# Altium footprint library connector.PcbLib: 180 footprints (part 11 of 12)
Each footprint in its own frame and in the unit in brackets; x right, y up, seen from the top. Pads: shape width x height; smd on the part's side, far side on the other; paste and mask are expansions set on the pad; w line width, h text height; cw(c..) or ccw(c..) is an arc to the next point about the centre after c.
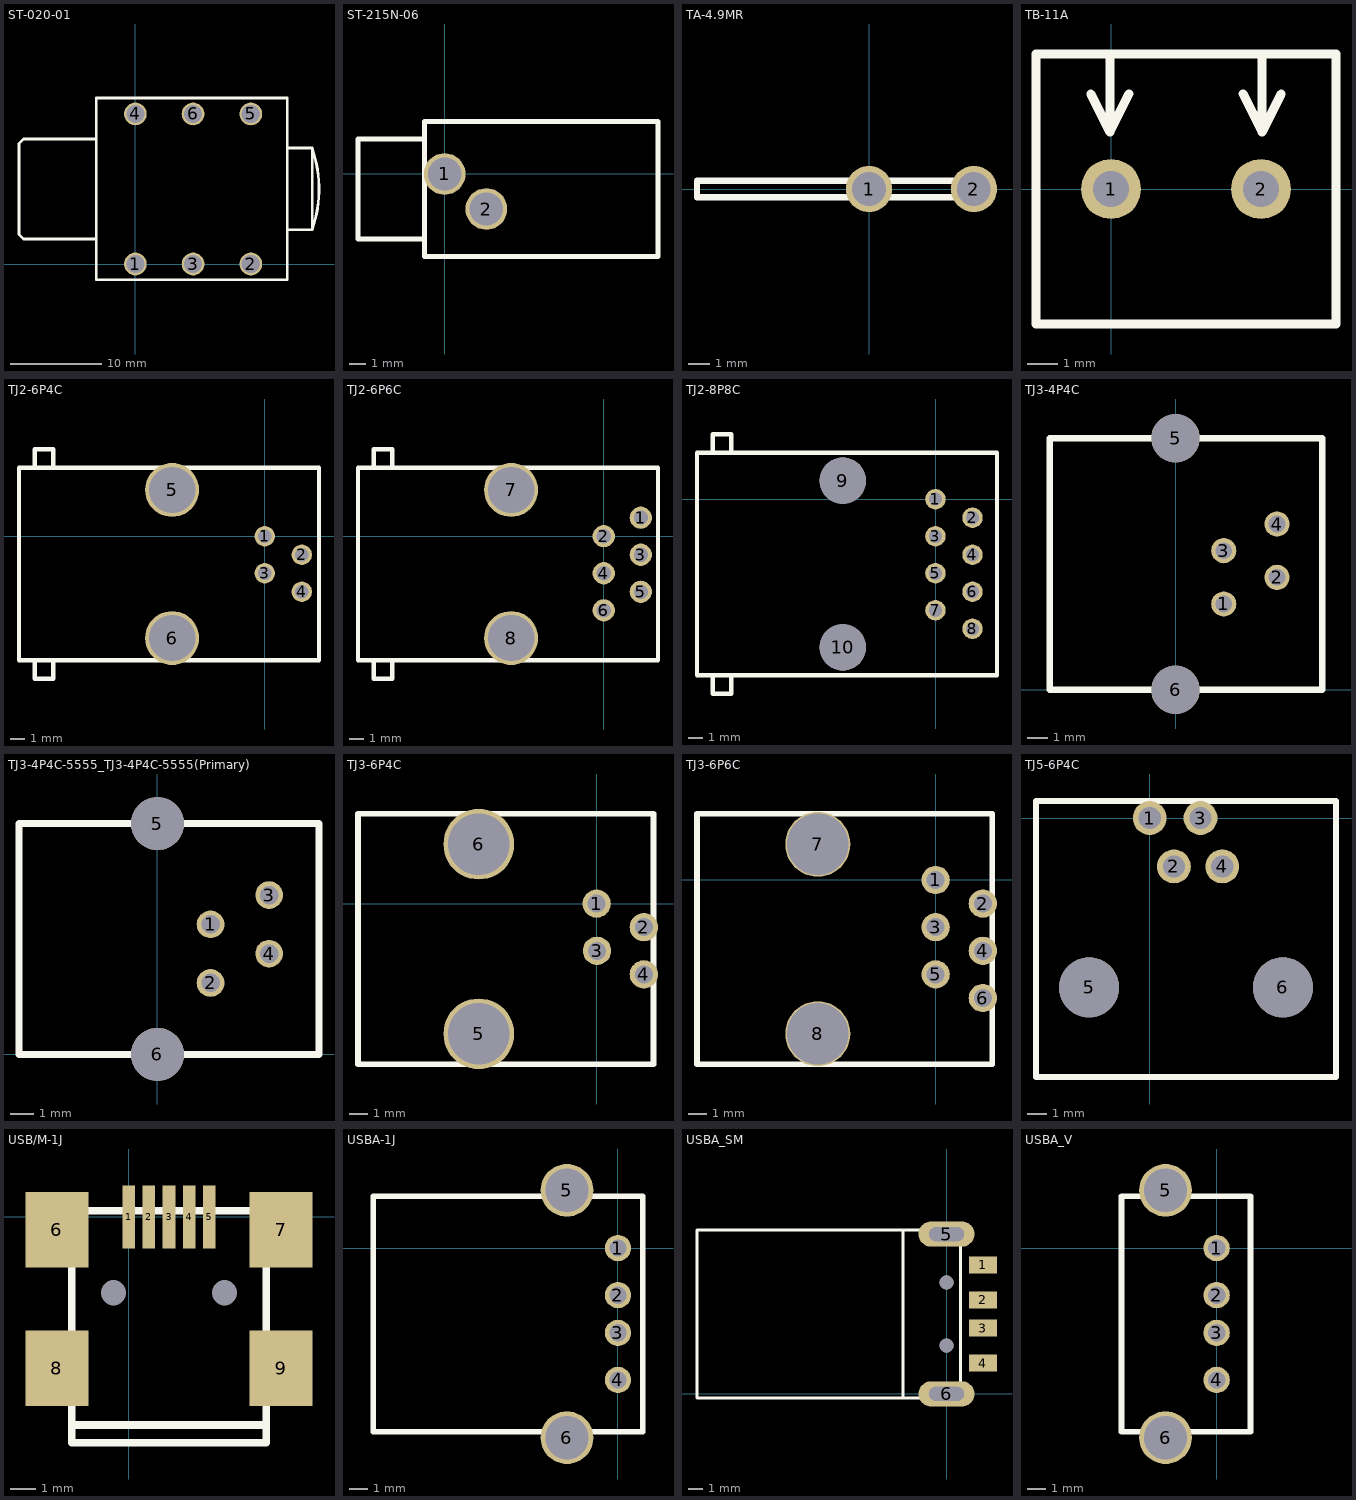
[diagram p10: the footprints below, top view; thin cyan lines are the x and y axes]

## ST-020-01 [mm]
pads (6):
  round 2.5 hole 2: 1(0,0) 2(12.7,0) 3(6.35,0) 4(0,16.51) 5(12.7,16.51) 6(6.35,16.51)
Top Overlay:
  lines w0.3: -4.3,2.755 -12.3,2.755 -12.8,3.255 -12.8,13.255 -12.3,13.755 -4.3,13.755 ; 16.7,3.755 19.45,3.755 19.45,12.755 16.7,12.755 ; 19.452,3.757 ccw(c6.33,8.25) 19.452,12.743 ; -4.3,-1.745 16.7,-1.745 16.7,18.255 -4.3,18.255 -4.3,-1.745

## ST-215N-06 [mm]
pads (2):
  round 2.5 hole 2: 1(0,0) 2(2.5,-2.1)
Top Overlay:
  lines w0.3: -1.2,-3.9 -2.8,-3.9 -5.2,-3.9 -5.2,-0.9 -5.2,0.15 -5.2,2.1 -1.2,2.1 ; -1.2,-4.95 12.8,-4.95 12.8,3.15 -1.2,3.15 -1.2,-4.95

## TA-4.9MR [mm]
pads (2):
  round 2.2 hole 1.6: 1(0,0) 2(5,0)
Top Overlay:
  lines w0.3: -8.2,-0.4 5.4,-0.4 5.4,0.4 -8.2,0.4 -8.2,-0.4

## TB-11A [mm]
pads (2):
  round 2 hole 1.2: 1(0,0) 2(5,0)
Top Overlay:
  lines w0.3: -0.675,3.175 -0.04,1.905 ; -0.04,4.445 -0.04,1.905 ; 0.595,3.175 -0.04,1.905 ; 4.405,3.175 5.04,1.905 ; 5.04,4.445 5.04,1.905 ; 5.675,3.175 5.04,1.905 ; -2.5,-4.5 -2.5,4.5 7.5,4.5 7.5,-4.5 -2.5,-4.5

## TJ2-6P4C [mm]
pads (6):
  round 1.4 hole 0.9: 1(0,-0.001) 2(2.541,-1.271) 3(0,-2.541) 4(2.541,-3.811)
  round 3.7 hole 3.17: 5(-6.35,3.174) 6(-6.35,-6.986)
Top Overlay:
  lines w0.3: -15.76,-8.511 -15.76,-9.781 ; -15.759,4.699 -15.759,5.97 -15.758,5.97 -14.49,5.97 -14.49,4.699 ; -14.49,-8.511 -14.49,-9.781 -15.759,-9.781 ; -15.76,-9.781 -15.759,-9.781 ; -16.85,-8.511 -16.85,4.699 3.72,4.699 3.72,-8.511 -16.85,-8.511
Mechanical 1:
  lines w0.3: -6.411,3.174 -6.31,3.174 ; -6.405,-6.986 -6.321,-6.986

## TJ2-6P6C [mil]
pads (8):
  round 60 hole 38: 1(100.04,49.96) 2(0,-0.04) 3(100.04,-50.04) 4(0,-100.04) 5(100.04,-150.04) 6(0,-200.04)
  round 145.67 hole 124.8: 7(-250,124.96) 8(-250,-275.04)
Top Overlay:
  lines w11.81: -620.47,-335.08 -620.47,-385.08 ; -620.43,185 -620.43,235.04 -620.39,235.04 -570.47,235.04 -570.47,185 ; -570.47,-335.08 -570.47,-385.08 -620.43,-385.08 ; -620.47,-385.08 -620.43,-385.08 ; -663.39,-335.08 146.46,-335.08 146.46,185 -663.39,185 -663.39,-335.08
Mechanical 1:
  lines w11.81: -252.4,124.96 -248.43,124.96 ; -252.17,-275.04 -248.86,-275.04

## TJ2-8P8C [mm]
pads (10):
  round 1.4 hole 0.9: 1(-0.005,-0.005) 2(2.535,-1.275) 3(-0.005,-2.545) 4(2.535,-3.815) 5(-0.005,-5.085) 6(2.535,-6.355) 7(-0.005,-7.625) 8(2.535,-8.895)
  round 3.17 hole 3.17: 9(-6.355,1.265) 10(-6.355,-10.165)
Top Overlay:
  lines w0.3: -15.265,-12.07 -15.265,-13.34 -13.995,-13.34 -13.995,-12.07 ; -15.265,3.17 -15.265,4.44 -13.995,4.44 -13.995,3.17 ; -16.355,-12.07 4.215,-12.07 4.215,3.17 -16.355,3.17 -16.355,-12.07

## TJ3-4P4C [mm]
pads (6):
  round 1.2 hole 0.8: 1(2.3,4.095) 2(4.84,5.365) 3(2.3,6.635) 4(4.84,7.905)
  round 2.3 hole 2.3: 5(0,12) 6(0,0)
Top Overlay:
  lines w0.3: -6,0 -6,12 7,12 7,0 -6,0

## TJ3-4P4C-5555_TJ3-4P4C-5555(Primary) [mm]
pads (6):
  round 1.2 hole 0.8: 1(2.3,5.634) 2(2.3,3.094) 3(4.84,6.904) 4(4.84,4.364)
  round 2.3 hole 2.3: 5(0,9.999) 6(0,-0.001)
Top Overlay:
  lines w0.3: -6,-0.001 7,-0.001 7,9.999 -6,9.999 -6,-0.001

## TJ3-6P4C [mm]
pads (6):
  round 1.524 hole 0.965: 1(-0.005,-0.005) 2(2.535,-1.275) 3(0.015,-2.545) 4(2.535,-3.815)
  round 3.8 hole 3.3: 5(-6.345,-7.01) 6(-6.345,3.19)
Top Overlay:
  lines w0.3: -12.845,-8.66 3.055,-8.66 3.055,4.84 -12.845,4.84 -12.845,-8.66

## TJ3-6P6C [mil]
pads (8):
  round 60 hole 38: 1(0,0) 2(100,-50) 3(0,-100) 4(100,-150) 5(0,-200) 6(100,-250)
  round 137.8 hole 129.92: 7(-249.61,75.79) 8(-249.61,-325.79)
Top Overlay:
  lines w11.81: -505.51,-390.75 119.69,-390.75 119.69,140.75 -505.51,140.75 -505.51,-390.75
Mechanical 1:
  lines w11.81: -256.3,75.79 -244.49,75.79 ; -251.97,-325.79 -246.46,-325.79

## TJ5-6P4C [mil]
pads (6):
  round 70 hole 46: 1(0,0) 2(50,-100) 3(105,0) 4(150,-100)
  round 124 hole 124: 5(-125,-350) 6(275,-350)
Top Overlay:
  lines w11.81: -235,-535 -235,35 385,35 385,-535 -235,-535

## USB/M-1J [mm]
pads (11):
  rect 0.5x2.5 smd: 1(0,0) 2(0.8,0) 3(1.6,0) 4(2.4,0) 5(3.2,0)
  rect 2.5x3 smd: 6(-2.85,-0.508) 7(6.05,-0.508) 8(-2.85,-6.008) 9(6.05,-6.008)
  round 0 hole 1 unplated mask-25.4: 10(-0.6,-3.008) 11(3.8,-3.008)
Top Overlay:
  lines w0.3: -2.25,-8.258 5.45,-8.258 ; -2.25,-7.458 -2.25,-5.958 ; -2.25,-6.758 -3.35,-6.758 -3.35,-5.258 -2.25,-5.258 ; -2.25,-1.958 -2.25,-0.458 ; -2.25,-1.258 -3.35,-1.258 -3.35,0.242 -2.25,0.242 ; -2.25,0.242 -2.25,-8.958 5.45,-8.958 5.45,0.242 ; -2.25,0.242 5.45,0.242 ; 5.45,0.242 5.45,-1.258 6.55,-1.258 6.55,0.242 5.45,0.242 ; 5.45,-6.758 6.55,-6.758 6.55,-5.258 5.45,-5.258 5.45,-6.758
Top Solder:
  region: -1.306,-3.008 -1.282,-3.191 -1.211,-3.361 -1.099,-3.507 -0.953,-3.619 -0.783,-3.69 -0.6,-3.714 -0.417,-3.69 -0.247,-3.619 -0.101,-3.507 0.012,-3.361 0.082,-3.191 0.106,-3.008 0.082,-2.825 0.012,-2.655 -0.101,-2.509 -0.247,-2.396 -0.417,-2.326 -0.6,-2.302 -0.783,-2.326 -0.953,-2.396 -1.099,-2.509 -1.211,-2.655 -1.282,-2.825
  region: 3.094,-3.008 3.118,-3.191 3.189,-3.361 3.301,-3.507 3.447,-3.619 3.617,-3.69 3.8,-3.714 3.983,-3.69 4.153,-3.619 4.299,-3.507 4.411,-3.361 4.482,-3.191 4.506,-3.008 4.482,-2.825 4.411,-2.655 4.299,-2.509 4.153,-2.396 3.983,-2.326 3.8,-2.302 3.617,-2.326 3.447,-2.396 3.301,-2.509 3.189,-2.655 3.118,-2.825
Bottom Solder:
  region: -1.306,-3.008 -1.282,-3.191 -1.211,-3.361 -1.099,-3.507 -0.953,-3.619 -0.783,-3.69 -0.6,-3.714 -0.417,-3.69 -0.247,-3.619 -0.101,-3.507 0.012,-3.361 0.082,-3.191 0.106,-3.008 0.082,-2.825 0.012,-2.655 -0.101,-2.509 -0.247,-2.396 -0.417,-2.326 -0.6,-2.302 -0.783,-2.326 -0.953,-2.396 -1.099,-2.509 -1.211,-2.655 -1.282,-2.825
  region: 3.094,-3.008 3.118,-3.191 3.189,-3.361 3.301,-3.507 3.447,-3.619 3.617,-3.69 3.8,-3.714 3.983,-3.69 4.153,-3.619 4.299,-3.507 4.411,-3.361 4.482,-3.191 4.506,-3.008 4.482,-2.825 4.411,-2.655 4.299,-2.509 4.153,-2.396 3.983,-2.326 3.8,-2.302 3.617,-2.326 3.447,-2.396 3.301,-2.509 3.189,-2.655 3.118,-2.825

## USBA-1J [mm]
pads (6):
  round 1.4 hole 0.92: 1(0,0) 2(0,-2.5) 3(0,-4.5) 4(0,-7)
  round 2.8 hole 2.3: 5(-2.71,3.065) 6(-2.71,-10.065)
Top Overlay:
  lines w0.3: -12.99,-9.75 1.31,-9.75 1.31,2.75 -12.99,2.75 -12.99,-9.75

## USBA_SM [mm]
pads (8):
  rect 2x1.2 smd: 1(2.6,9.2) 2(2.6,6.7) 3(2.6,4.7) 4(2.6,2.2)
  oval 4x1.8 hole 1 slot 2.5 at 0 deg: 5(0,11.4) 6(0,0)
  round 1 hole 1 unplated: ""(0,3.45) ""(0,7.95)
Top Overlay:
  lines w0.2: -3.1,-0.3 -3.1,0 -3.1,11.4 -3.1,11.7 ; -17.8,-0.3 1,-0.3 1,11.7 -17.8,11.7 -17.8,-0.3
3D body "USB_A_SM.stp": height 3.05, standoff -2.92, extent -17.8,-0.65 3.48,12.05

## USBA_V [mm]
pads (6):
  round 1.4 hole 0.92: 1(0,0) 2(0,-2.5) 3(0,-4.5) 4(0,-7)
  round 2.8 hole 2.3: 5(-2.71,3.065) 6(-2.71,-10.065)
Top Overlay:
  lines w0.3: -5.05,-9.75 -5.05,2.75 1.8,2.75 1.8,-9.75 -5.05,-9.75
3D body "uj2-av-1-th.stp": height 15, standoff -2.95, extent -4.9,-11.002 2.6,4.002